# Altium footprint library standard crystals.PcbLib: 3 footprints
Each footprint in its own frame and in the unit in brackets; x right, y up, seen from the top. Pads: shape width x height; smd on the part's side, far side on the other; paste and mask are expansions set on the pad; w line width, h text height; cw(c..) or ccw(c..) is an arc to the next point about the centre after c.
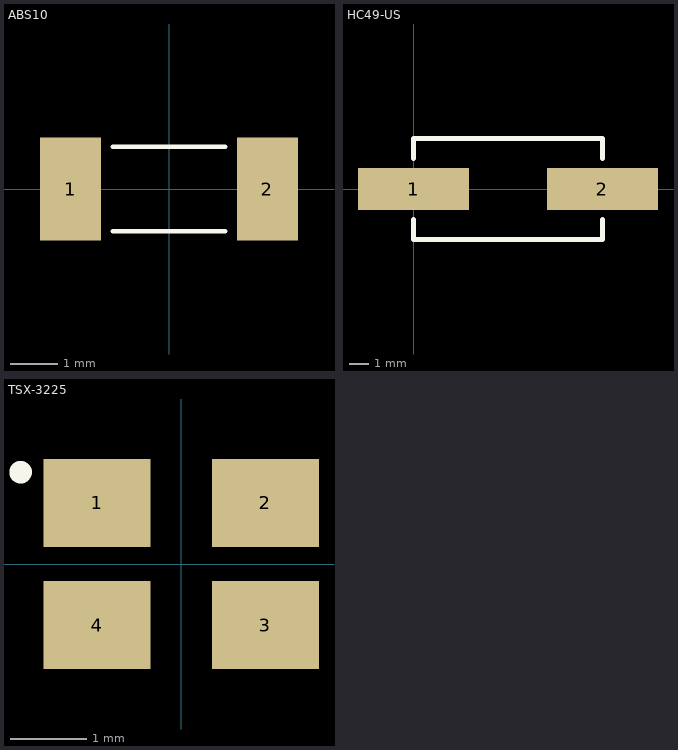
[diagram p0: the footprints below, top view; thin cyan lines are the x and y axes]

## ABS10 [mm] "ABS10 Crystal (32.768kHz)"
height 1
pads (2):
  rect 1.3x2.2 smd: 1(-2.1,0) 2(2.1,0)
Top Overlay:
  lines w0.1: -1.2,-0.9 1.2,-0.9 ; -1.2,0.9 1.2,0.9
3D body: height 1, standoff 0, extent -2.45,-0.9 2.45,0.9

## HC49-US [mil]
height 0.16
pads (2):
  rect 220x83 smd: 1(0,0) 2(374,0)
Top Overlay:
  lines w10: 0,-60 0,-100 374,-100 374,-60 ; 0,60 0,100 374,100 374,60
3D body: height 169.29, standoff 0, extent -68.84,-93.48 450.85,95.5

## TSX-3225 [mm] "TSX-3225 Crystal"
height 0.6
pads (4):
  rect 1.4x1.15 smd: 1(-1.1,0.8) 2(1.1,0.8) 3(1.1,-0.8) 4(-1.1,-0.8)
Top Overlay:
  circle w0.254: c-2.1,1.2 r0.02
3D body: height 0.6, standoff 0, extent -1.6,-1.25 1.6,1.25